# Altium footprint library arduino nano.PcbLib: 1 footprints
Each footprint in its own frame and in the unit in brackets; x right, y up, seen from the top. Pads: shape width x height; smd on the part's side, far side on the other; paste and mask are expansions set on the pad; w line width, h text height; cw(c..) or ccw(c..) is an arc to the next point about the centre after c.
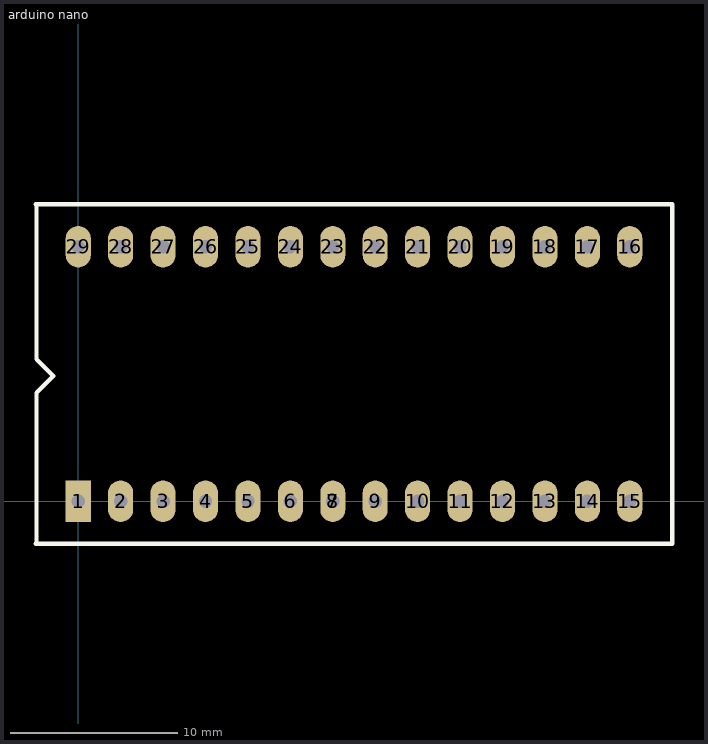
[diagram p0: the footprint, top view; thin cyan lines are the x and y axes]

## arduino nano [mm] ".mlm"
pads (29):
  rect 1.5x2.5 hole 0.8: 1(0,0)
  oval 1.5x2.5 hole 0.8: 2(2.54,0) 3(5.08,0) 4(7.62,0) 5(10.16,0) 6(12.7,0) 7(15.24,0) 8(15.24,0) 9(17.78,0) 10(20.32,0) 11(22.86,0) 12(25.4,0) 13(27.94,0) 14(30.48,0) 15(33.02,0) 16(33.02,15.24) 17(30.48,15.24) 18(27.94,15.24) 19(25.4,15.24) 20(22.86,15.24) 21(20.32,15.24) 22(17.78,15.24) 23(15.24,15.24) 24(12.7,15.24) 25(10.16,15.24) 26(7.62,15.24) 27(5.08,15.24) 28(2.54,15.24) 29(0,15.24)
Top Overlay:
  lines w0.254: -2.54,17.78 35.56,17.78 35.56,-2.54 -2.54,-2.54 -2.5,-2.5 -2.5,6.5 -1.5,7.5 -2.5,8.5 -2.5,17.74